# Altium schematic symbol library WR-RAST.SchLib: 73 symbols (part 1 of 2)
Pins are listed as number, name and electrical type; pins without a type are passive.

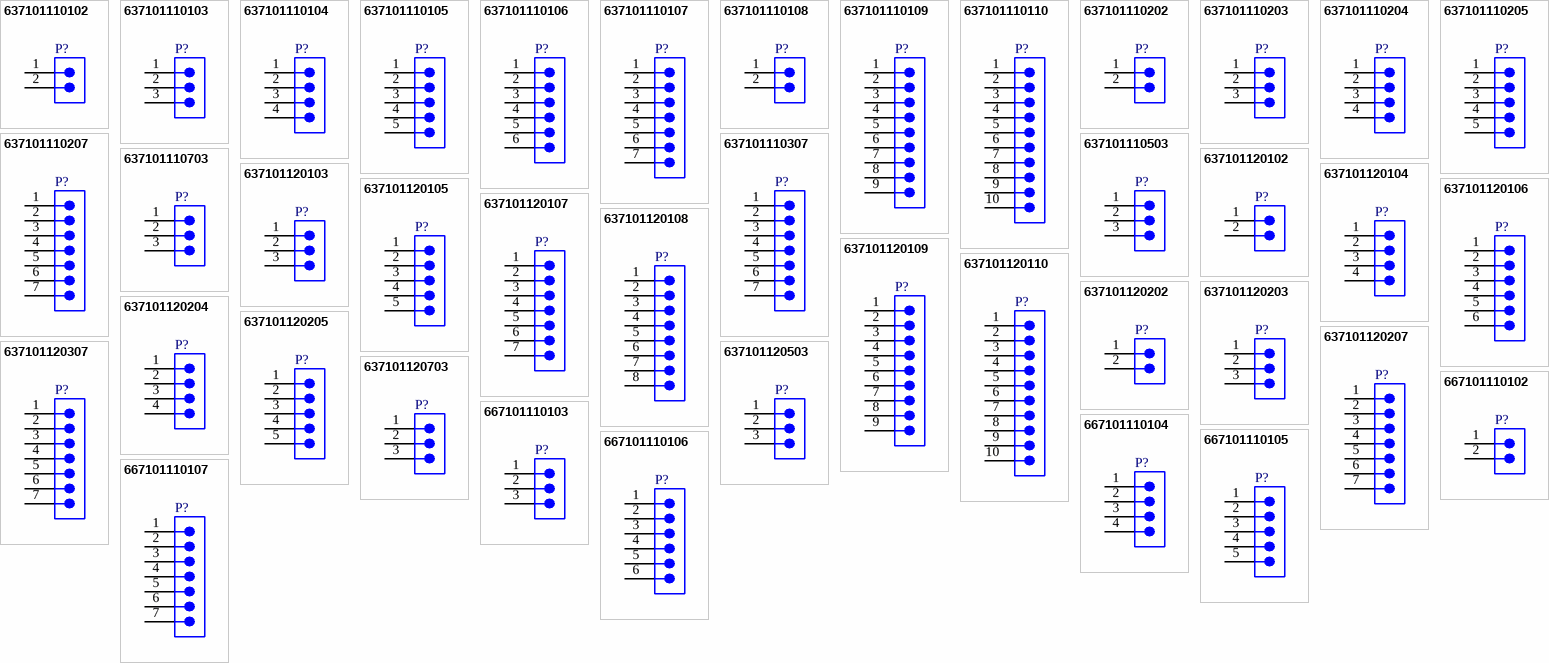
[diagram p0: symbols 637101110102 to 667101110107]

## 637101110102
designator P?  (value not drawn)
WR-RAST Male Header, THT, Vertical, lead pitch 5mm, 02p; Manufacturer: Wurth Elektronik; Rated Current: 16A; Insulator Material: PA66; Polarity: 2; Working Voltage: 380V (AC); Manufacturer Part Number: 637101110102; Category: Wire-to-Board Connector; Match Code: WR-RAST; ComponentLink1Description: Website Link; ComponentLink1URL: https://www.we-online.com; ComponentLink2Description: Datasheet Link; ComponentLink2URL: https://www.we-online.com/components/products/datasheet/637101110102; Mount: Through Hole; Operating Temperature Min: -40degC; Operating Temperature Max: 110degC; Packaging: Tray; Gender: Male; Orientation: Vertical; Lead Pitch: 5mm
footprint 637101110102
pins: 1, 2

## 637101110103
designator P?  (value not drawn)
WR-RAST Male Header, THT, Vertical, lead pitch 5mm, 03p; Manufacturer: Wurth Elektronik; Rated Current: 16A; Insulator Material: PA66; Polarity: 3; Working Voltage: 380V (AC); Manufacturer Part Number: 637101110103; Category: Wire-to-Board Connector; Match Code: WR-RAST; ComponentLink1Description: Website Link; ComponentLink1URL: https://www.we-online.com; ComponentLink2Description: Datasheet Link; ComponentLink2URL: https://www.we-online.com/components/products/datasheet/637101110103; Mount: Through Hole; Operating Temperature Min: -40degC; Operating Temperature Max: 110degC; Packaging: Tray; Gender: Male; Orientation: Vertical; Lead Pitch: 5mm
footprint 637101110103
pins: 1, 2, 3

## 637101110104
designator P?  (value not drawn)
WR-RAST Male Header, THT, Vertical, lead pitch 5mm, 04p; Manufacturer: Wurth Elektronik; Rated Current: 16A; Insulator Material: PA66; Polarity: 4; Working Voltage: 380V (AC); Manufacturer Part Number: 637101110104; Category: Wire-to-Board Connector; Match Code: WR-RAST; ComponentLink1Description: Website Link; ComponentLink1URL: https://www.we-online.com; ComponentLink2Description: Datasheet Link; ComponentLink2URL: https://www.we-online.com/components/products/datasheet/637101110104; Mount: Through Hole; Operating Temperature Min: -40degC; Operating Temperature Max: 110degC; Packaging: Tray; Gender: Male; Orientation: Vertical; Lead Pitch: 5mm
footprint 637101110104
pins: 1, 2, 3, 4

## 637101110105
designator P?  (value not drawn)
WR-RAST Male Header, THT, Vertical, lead pitch 5mm, 05p; Manufacturer: Wurth Elektronik; Rated Current: 16A; Insulator Material: PA66; Polarity: 5; Working Voltage: 380V (AC); Manufacturer Part Number: 637101110105; Category: Wire-to-Board Connector; Match Code: WR-RAST; ComponentLink1Description: Website Link; ComponentLink1URL: https://www.we-online.com; ComponentLink2Description: Datasheet Link; ComponentLink2URL: https://www.we-online.com/components/products/datasheet/637101110105; Mount: Through Hole; Operating Temperature Min: -40degC; Operating Temperature Max: 110degC; Packaging: Tray; Gender: Male; Orientation: Vertical; Lead Pitch: 5mm
footprint 637101110105
pins: 1, 2, 3, 4, 5

## 637101110106
designator P?  (value not drawn)
WR-RAST Male Header, THT, Vertical, lead pitch 5mm, 06p; Manufacturer: Wurth Elektronik; Rated Current: 16A; Insulator Material: PA66; Polarity: 6; Working Voltage: 380V (AC); Manufacturer Part Number: 637101110106; Category: Wire-to-Board Connector; Match Code: WR-RAST; ComponentLink1Description: Website Link; ComponentLink1URL: https://www.we-online.com; ComponentLink2Description: Datasheet Link; ComponentLink2URL: https://www.we-online.com/components/products/datasheet/637101110106; Mount: Through Hole; Operating Temperature Min: -40degC; Operating Temperature Max: 110degC; Packaging: Tray; Gender: Male; Orientation: Vertical; Lead Pitch: 5mm
footprint 637101110106
pins: 1, 2, 3, 4, 5, 6

## 637101110107
designator P?  (value not drawn)
WR-RAST Male Header, THT, Vertical, lead pitch 5mm, 07p; Manufacturer: Wurth Elektronik; Rated Current: 16A; Insulator Material: PA66; Polarity: 7; Working Voltage: 380V (AC); Manufacturer Part Number: 637101110107; Category: Wire-to-Board Connector; Match Code: WR-RAST; ComponentLink1Description: Website Link; ComponentLink1URL: https://www.we-online.com; ComponentLink2Description: Datasheet Link; ComponentLink2URL: https://www.we-online.com/components/products/datasheet/637101110107; Mount: Through Hole; Operating Temperature Min: -40degC; Operating Temperature Max: 110degC; Packaging: Tray; Gender: Male; Orientation: Vertical; Lead Pitch: 5mm
footprint 637101110107
pins: 1, 2, 3, 4, 5, 6, 7

## 637101110108
designator P?  (value not drawn)
WR-RAST Male Header, THT, Vertical, lead pitch 5mm, 02p; Manufacturer: Wurth Elektronik; Rated Current: 16A; Insulator Material: PA66; Polarity: 2; Working Voltage: 380V (AC); Manufacturer Part Number: 637101110108; Category: Wire-to-Board Connector; Match Code: WR-RAST; ComponentLink1Description: Website Link; ComponentLink1URL: https://www.we-online.com; ComponentLink2Description: Datasheet Link; ComponentLink2URL: https://www.we-online.com/components/products/datasheet/637101110108; Mount: Through Hole; Operating Temperature Min: -40degC; Operating Temperature Max: 110degC; Packaging: Tray; Gender: Male; Orientation: Vertical; Lead Pitch: 5mm
footprint 637101110108
pins: 1, 2

## 637101110109
designator P?  (value not drawn)
WR-RAST Male Header, THT, Vertical, lead pitch 5mm, 09p; Manufacturer: Wurth Elektronik; Rated Current: 16A; Insulator Material: PA66; Polarity: 9; Working Voltage: 380V (AC); Manufacturer Part Number: 637101110109; Category: Wire-to-Board Connector; Match Code: WR-RAST; ComponentLink1Description: Website Link; ComponentLink1URL: https://www.we-online.com; ComponentLink2Description: Datasheet Link; ComponentLink2URL: https://www.we-online.com/components/products/datasheet/637101110109; Mount: Through Hole; Operating Temperature Min: -40degC; Operating Temperature Max: 110degC; Packaging: Tray; Gender: Male; Orientation: Vertical; Lead Pitch: 5mm
footprint 637101110109
pins: 1, 2, 3, 4, 5, 6, 7, 8, 9

## 637101110110
designator P?  (value not drawn)
WR-RAST Male Header, THT, Vertical, lead pitch 5mm, 10p; Manufacturer: Wurth Elektronik; Rated Current: 16A; Insulator Material: PA66; Polarity: 10; Working Voltage: 380V (AC); Manufacturer Part Number: 637101110110; Category: Wire-to-Board Connector; Match Code: WR-RAST; ComponentLink1Description: Website Link; ComponentLink1URL: https://www.we-online.com; ComponentLink2Description: Datasheet Link; ComponentLink2URL: https://www.we-online.com/components/products/datasheet/637101110110; Mount: Through Hole; Operating Temperature Min: -40degC; Operating Temperature Max: 110degC; Packaging: Tray; Gender: Male; Orientation: Vertical; Lead Pitch: 5mm
footprint 637101110110
pins: 1, 2, 3, 4, 5, 6, 7, 8, 9, 10

## 637101110202
designator P?  (value not drawn)
WR-RAST Male Header, THT, Vertical, lead pitch 5mm, 02p; Manufacturer: Wurth Elektronik; Rated Current: 16A; Insulator Material: PA66; Polarity: 2; Working Voltage: 380V (AC); Manufacturer Part Number: 637101110202; Category: Wire-to-Board Connector; Match Code: WR-RAST; ComponentLink1Description: Website Link; ComponentLink1URL: https://www.we-online.com; ComponentLink2Description: Datasheet Link; ComponentLink2URL: https://www.we-online.com/components/products/datasheet/637101110202; Mount: Through Hole; Operating Temperature Min: -40degC; Operating Temperature Max: 110degC; Packaging: Tray; Gender: Male; Orientation: Vertical; Lead Pitch: 5mm
footprint 637101110202
pins: 1, 2

## 637101110203
designator P?  (value not drawn)
WR-RAST Male Header, THT, Vertical, lead pitch 5mm, 03p; Manufacturer: Wurth Elektronik; Rated Current: 16A; Insulator Material: PA66; Polarity: 3; Working Voltage: 380V (AC); Manufacturer Part Number: 637101110203; Category: Wire-to-Board Connector; Match Code: WR-RAST; ComponentLink1Description: Website Link; ComponentLink1URL: https://www.we-online.com; ComponentLink2Description: Datasheet Link; ComponentLink2URL: https://www.we-online.com/components/products/datasheet/637101110203; Mount: Through Hole; Operating Temperature Min: -40degC; Operating Temperature Max: 110degC; Packaging: Tray; Gender: Male; Orientation: Vertical; Lead Pitch: 5mm
footprint 637101110203
pins: 1, 2, 3

## 637101110204
designator P?  (value not drawn)
WR-RAST Male Header, THT, Vertical, lead pitch 5mm, 04p; Manufacturer: Wurth Elektronik; Rated Current: 16A; Insulator Material: PA66; Polarity: 4; Working Voltage: 380V (AC); Manufacturer Part Number: 637101110204; Category: Wire-to-Board Connector; Match Code: WR-RAST; ComponentLink1Description: Website Link; ComponentLink1URL: https://www.we-online.com; ComponentLink2Description: Datasheet Link; ComponentLink2URL: https://www.we-online.com/components/products/datasheet/637101110204; Mount: Through Hole; Operating Temperature Min: -40degC; Operating Temperature Max: 110degC; Packaging: Tray; Gender: Male; Orientation: Vertical; Lead Pitch: 5mm
footprint 637101110204
pins: 1, 2, 3, 4

## 637101110205
designator P?  (value not drawn)
WR-RAST Male Header, THT, Vertical, lead pitch 5mm, 05p; Manufacturer: Wurth Elektronik; Rated Current: 16A; Insulator Material: PA66; Polarity: 5; Working Voltage: 380V (AC); Manufacturer Part Number: 637101110205; Category: Wire-to-Board Connector; Match Code: WR-RAST; ComponentLink1Description: Website Link; ComponentLink1URL: https://www.we-online.com; ComponentLink2Description: Datasheet Link; ComponentLink2URL: https://www.we-online.com/components/products/datasheet/637101110205; Mount: Through Hole; Operating Temperature Min: -40degC; Operating Temperature Max: 110degC; Packaging: Tray; Gender: Male; Orientation: Vertical; Lead Pitch: 5mm
footprint 637101110205
pins: 1, 2, 3, 4, 5

## 637101110207
designator P?  (value not drawn)
WR-RAST Male Header, THT, Vertical, lead pitch 5mm, 07p; Manufacturer: Wurth Elektronik; Rated Current: 16A; Insulator Material: PA66; Polarity: 7; Working Voltage: 380V (AC); Manufacturer Part Number: 637101110207; Category: Wire-to-Board Connector; Match Code: WR-RAST; ComponentLink1Description: Website Link; ComponentLink1URL: https://www.we-online.com; ComponentLink2Description: Datasheet Link; ComponentLink2URL: https://www.we-online.com/components/products/datasheet/637101110207; Mount: Through Hole; Operating Temperature Min: -40degC; Operating Temperature Max: 110degC; Packaging: Tray; Gender: Male; Orientation: Vertical; Lead Pitch: 5mm
footprint 637101110207
pins: 1, 2, 3, 4, 5, 6, 7

## 637101110307
designator P?  (value not drawn)
WR-RAST Male Header, THT, Vertical, lead pitch 5mm, 07p; Manufacturer: Wurth Elektronik; Rated Current: 16A; Insulator Material: PA66; Polarity: 7; Working Voltage: 380V (AC); Manufacturer Part Number: 637101110307; Category: Wire-to-Board Connector; Match Code: WR-RAST; ComponentLink1Description: Website Link; ComponentLink1URL: https://www.we-online.com; ComponentLink2Description: Datasheet Link; ComponentLink2URL: https://www.we-online.com/components/products/datasheet/637101110307; Mount: Through Hole; Operating Temperature Min: -40degC; Operating Temperature Max: 110degC; Packaging: Tray; Gender: Male; Orientation: Vertical; Lead Pitch: 5mm
footprint 637101110307
pins: 1, 2, 3, 4, 5, 6, 7

## 637101110503
designator P?  (value not drawn)
WR-RAST Male Header, THT, Vertical, lead pitch 5mm, 03p; Manufacturer: Wurth Elektronik; Rated Current: 16A; Insulator Material: PA66; Polarity: 3; Working Voltage: 380V (AC); Manufacturer Part Number: 637101110503; Category: Wire-to-Board Connector; Match Code: WR-RAST; ComponentLink1Description: Website Link; ComponentLink1URL: https://www.we-online.com; ComponentLink2Description: Datasheet Link; ComponentLink2URL: https://www.we-online.com/components/products/datasheet/637101110503; Mount: Through Hole; Operating Temperature Min: -40degC; Operating Temperature Max: 110degC; Packaging: Tray; Gender: Male; Orientation: Vertical; Lead Pitch: 5mm
footprint 637101110503
pins: 1, 2, 3

## 637101110703
designator P?  (value not drawn)
WR-RAST Male Header, THT, Vertical, lead pitch 5mm, 03p; Manufacturer: Wurth Elektronik; Rated Current: 16A; Insulator Material: PA66; Polarity: 3; Working Voltage: 380V (AC); Manufacturer Part Number: 637101110703; Category: Wire-to-Board Connector; Match Code: WR-RAST; ComponentLink1Description: Website Link; ComponentLink1URL: https://www.we-online.com; ComponentLink2Description: Datasheet Link; ComponentLink2URL: https://www.we-online.com/components/products/datasheet/637101110703; Mount: Through Hole; Operating Temperature Min: -40degC; Operating Temperature Max: 110degC; Packaging: Tray; Gender: Male; Orientation: Vertical; Lead Pitch: 5mm
footprint 637101110703
pins: 1, 2, 3

## 637101120102
designator P?  (value not drawn)
WR-RAST Male Header, THT, Horizontal, lead pitch 5mm, 02p; Manufacturer: Wurth Elektronik; Rated Current: 16A; Insulator Material: PA66; Polarity: 2; Working Voltage: 380V (AC); Manufacturer Part Number: 637101120102; Category: Wire-to-Board Connector; Match Code: WR-RAST; ComponentLink1Description: Website Link; ComponentLink1URL: https://www.we-online.com; ComponentLink2Description: Datasheet Link; ComponentLink2URL: https://www.we-online.com/components/products/datasheet/637101120102; Mount: Through Hole; Operating Temperature Min: -40degC; Operating Temperature Max: 110degC; Packaging: Tray; Gender: Male; Orientation: Horizontal; Lead Pitch: 5mm
footprint 637101120102
pins: 1, 2

## 637101120103
designator P?  (value not drawn)
WR-RAST Male Header, THT, Horizontal, lead pitch 5mm, 03p; Manufacturer: Wurth Elektronik; Rated Current: 16A; Insulator Material: PA66; Polarity: 3; Working Voltage: 380V (AC); Manufacturer Part Number: 637101120103; Category: Wire-to-Board Connector; Match Code: WR-RAST; ComponentLink1Description: Website Link; ComponentLink1URL: https://www.we-online.com; ComponentLink2Description: Datasheet Link; ComponentLink2URL: https://www.we-online.com/components/products/datasheet/637101120103; Mount: Through Hole; Operating Temperature Min: -40degC; Operating Temperature Max: 110degC; Packaging: Tray; Gender: Male; Orientation: Horizontal; Lead Pitch: 5mm
footprint 637101120103
pins: 1, 2, 3

## 637101120104
designator P?  (value not drawn)
WR-RAST Male Header, THT, Horizontal, lead pitch 5mm, 04p; Manufacturer: Wurth Elektronik; Rated Current: 16A; Insulator Material: PA66; Polarity: 4; Working Voltage: 380V (AC); Manufacturer Part Number: 637101120104; Category: Wire-to-Board Connector; Match Code: WR-RAST; ComponentLink1Description: Website Link; ComponentLink1URL: https://www.we-online.com; ComponentLink2Description: Datasheet Link; ComponentLink2URL: https://www.we-online.com/components/products/datasheet/637101120104; Mount: Through Hole; Operating Temperature Min: -40degC; Operating Temperature Max: 110degC; Packaging: Tray; Gender: Male; Orientation: Horizontal; Lead Pitch: 5mm
footprint 637101120104
pins: 1, 2, 3, 4

## 637101120105
designator P?  (value not drawn)
WR-RAST Male Header, THT, Horizontal, lead pitch 5mm, 05p; Manufacturer: Wurth Elektronik; Rated Current: 16A; Insulator Material: PA66; Polarity: 5; Working Voltage: 380V (AC); Manufacturer Part Number: 637101120105; Category: Wire-to-Board Connector; Match Code: WR-RAST; ComponentLink1Description: Website Link; ComponentLink1URL: https://www.we-online.com; ComponentLink2Description: Datasheet Link; ComponentLink2URL: https://www.we-online.com/components/products/datasheet/637101120105; Mount: Through Hole; Operating Temperature Min: -40degC; Operating Temperature Max: 110degC; Packaging: Tray; Gender: Male; Orientation: Horizontal; Lead Pitch: 5mm
footprint 637101120105
pins: 1, 2, 3, 4, 5

## 637101120106
designator P?  (value not drawn)
WR-RAST Male Header, THT, Horizontal, lead pitch 5mm, 06p; Manufacturer: Wurth Elektronik; Rated Current: 16A; Insulator Material: PA66; Polarity: 6; Working Voltage: 380V (AC); Manufacturer Part Number: 637101120106; Category: Wire-to-Board Connector; Match Code: WR-RAST; ComponentLink1Description: Website Link; ComponentLink1URL: https://www.we-online.com; ComponentLink2Description: Datasheet Link; ComponentLink2URL: https://www.we-online.com/components/products/datasheet/637101120106; Mount: Through Hole; Operating Temperature Min: -40degC; Operating Temperature Max: 110degC; Packaging: Tray; Gender: Male; Orientation: Horizontal; Lead Pitch: 5mm
footprint 637101120106
pins: 1, 2, 3, 4, 5, 6

## 637101120107
designator P?  (value not drawn)
WR-RAST Male Header, THT, Horizontal, lead pitch 5mm, 07p; Manufacturer: Wurth Elektronik; Rated Current: 16A; Insulator Material: PA66; Polarity: 7; Working Voltage: 380V (AC); Manufacturer Part Number: 637101120107; Category: Wire-to-Board Connector; Match Code: WR-RAST; ComponentLink1Description: Website Link; ComponentLink1URL: https://www.we-online.com; ComponentLink2Description: Datasheet Link; ComponentLink2URL: https://www.we-online.com/components/products/datasheet/637101120107; Mount: Through Hole; Operating Temperature Min: -40degC; Operating Temperature Max: 110degC; Packaging: Tray; Gender: Male; Orientation: Horizontal; Lead Pitch: 5mm
footprint 637101120107
pins: 1, 2, 3, 4, 5, 6, 7

## 637101120108
designator P?  (value not drawn)
WR-RAST Male Header, THT, Horizontal, lead pitch 5mm, 08p; Manufacturer: Wurth Elektronik; Rated Current: 16A; Insulator Material: PA66; Polarity: 8; Working Voltage: 380V (AC); Manufacturer Part Number: 637101120108; Category: Wire-to-Board Connector; Match Code: WR-RAST; ComponentLink1Description: Website Link; ComponentLink1URL: https://www.we-online.com; ComponentLink2Description: Datasheet Link; ComponentLink2URL: https://www.we-online.com/components/products/datasheet/637101120108; Mount: Through Hole; Operating Temperature Min: -40degC; Operating Temperature Max: 110degC; Packaging: Tray; Gender: Male; Orientation: Horizontal; Lead Pitch: 5mm
footprint 637101120108
pins: 1, 2, 3, 4, 5, 6, 7, 8

## 637101120109
designator P?  (value not drawn)
WR-RAST Male Header, THT, Horizontal, lead pitch 5mm, 09p; Manufacturer: Wurth Elektronik; Rated Current: 16A; Insulator Material: PA66; Polarity: 9; Working Voltage: 380V (AC); Manufacturer Part Number: 637101120109; Category: Wire-to-Board Connector; Match Code: WR-RAST; ComponentLink1Description: Website Link; ComponentLink1URL: https://www.we-online.com; ComponentLink2Description: Datasheet Link; ComponentLink2URL: https://www.we-online.com/components/products/datasheet/637101120109; Mount: Through Hole; Operating Temperature Min: -40degC; Operating Temperature Max: 110degC; Packaging: Tray; Gender: Male; Orientation: Horizontal; Lead Pitch: 5mm
footprint 637101120109
pins: 1, 2, 3, 4, 5, 6, 7, 8, 9

## 637101120110
designator P?  (value not drawn)
WR-RAST Male Header, THT, Horizontal, lead pitch 5mm, 10p; Manufacturer: Wurth Elektronik; Rated Current: 16A; Insulator Material: PA66; Polarity: 10; Working Voltage: 380V (AC); Manufacturer Part Number: 637101120110; Category: Wire-to-Board Connector; Match Code: WR-RAST; ComponentLink1Description: Website Link; ComponentLink1URL: https://www.we-online.com; ComponentLink2Description: Datasheet Link; ComponentLink2URL: https://www.we-online.com/components/products/datasheet/637101120110; Mount: Through Hole; Operating Temperature Min: -40degC; Operating Temperature Max: 110degC; Packaging: Tray; Gender: Male; Orientation: Horizontal; Lead Pitch: 5mm
footprint 637101120110
pins: 1, 2, 3, 4, 5, 6, 7, 8, 9, 10

## 637101120202
designator P?  (value not drawn)
WR-RAST Male Header, THT, Horizontal, lead pitch 5mm, 02p; Manufacturer: Wurth Elektronik; Rated Current: 16A; Insulator Material: PA66; Polarity: 2; Working Voltage: 380V (AC); Manufacturer Part Number: 637101120202; Category: Wire-to-Board Connector; Match Code: WR-RAST; ComponentLink1Description: Website Link; ComponentLink1URL: https://www.we-online.com; ComponentLink2Description: Datasheet Link; ComponentLink2URL: https://www.we-online.com/components/products/datasheet/637101120202; Mount: Through Hole; Operating Temperature Min: -40degC; Operating Temperature Max: 110degC; Packaging: Tray; Gender: Male; Orientation: Horizontal; Lead Pitch: 5mm
footprint 637101120202
pins: 1, 2

## 637101120203
designator P?  (value not drawn)
WR-RAST Male Header, THT, Horizontal, lead pitch 5mm, 03p; Manufacturer: Wurth Elektronik; Rated Current: 16A; Insulator Material: PA66; Polarity: 3; Working Voltage: 380V (AC); Manufacturer Part Number: 637101120203; Category: Wire-to-Board Connector; Match Code: WR-RAST; ComponentLink1Description: Website Link; ComponentLink1URL: https://www.we-online.com; ComponentLink2Description: Datasheet Link; ComponentLink2URL: https://www.we-online.com/components/products/datasheet/637101120203; Mount: Through Hole; Operating Temperature Min: -40degC; Operating Temperature Max: 110degC; Packaging: Tray; Gender: Male; Orientation: Horizontal; Lead Pitch: 5mm
footprint 637101120203
pins: 1, 2, 3

## 637101120204
designator P?  (value not drawn)
WR-RAST Male Header, THT, Horizontal, lead pitch 5mm, 04p; Manufacturer: Wurth Elektronik; Rated Current: 16A; Insulator Material: PA66; Polarity: 4; Working Voltage: 380V (AC); Manufacturer Part Number: 637101120204; Category: Wire-to-Board Connector; Match Code: WR-RAST; ComponentLink1Description: Website Link; ComponentLink1URL: https://www.we-online.com; ComponentLink2Description: Datasheet Link; ComponentLink2URL: https://www.we-online.com/components/products/datasheet/637101120204; Mount: Through Hole; Operating Temperature Min: -40degC; Operating Temperature Max: 110degC; Packaging: Tray; Gender: Male; Orientation: Horizontal; Lead Pitch: 5mm
footprint 637101120204
pins: 1, 2, 3, 4

## 637101120205
designator P?  (value not drawn)
WR-RAST Male Header, THT, Horizontal, lead pitch 5mm, 05p; Manufacturer: Wurth Elektronik; Rated Current: 16A; Insulator Material: PA66; Polarity: 5; Working Voltage: 380V (AC); Manufacturer Part Number: 637101120205; Category: Wire-to-Board Connector; Match Code: WR-RAST; ComponentLink1Description: Website Link; ComponentLink1URL: https://www.we-online.com; ComponentLink2Description: Datasheet Link; ComponentLink2URL: https://www.we-online.com/components/products/datasheet/637101120205; Mount: Through Hole; Operating Temperature Min: -40degC; Operating Temperature Max: 110degC; Packaging: Tray; Gender: Male; Orientation: Horizontal; Lead Pitch: 5mm
footprint 637101120205
pins: 1, 2, 3, 4, 5

## 637101120207
designator P?  (value not drawn)
WR-RAST Male Header, THT, Horizontal, lead pitch 5mm, 07p; Manufacturer: Wurth Elektronik; Rated Current: 16A; Insulator Material: PA66; Polarity: 7; Working Voltage: 380V (AC); Manufacturer Part Number: 637101120207; Category: Wire-to-Board Connector; Match Code: WR-RAST; ComponentLink1Description: Website Link; ComponentLink1URL: https://www.we-online.com; ComponentLink2Description: Datasheet Link; ComponentLink2URL: https://www.we-online.com/components/products/datasheet/637101120207; Mount: Through Hole; Operating Temperature Min: -40degC; Operating Temperature Max: 110degC; Packaging: Tray; Gender: Male; Orientation: Horizontal; Lead Pitch: 5mm
footprint 637101120207
pins: 1, 2, 3, 4, 5, 6, 7

## 637101120307
designator P?  (value not drawn)
WR-RAST Male Header, THT, Horizontal, lead pitch 5mm, 07p; Manufacturer: Wurth Elektronik; Rated Current: 16A; Insulator Material: PA66; Polarity: 7; Working Voltage: 380V (AC); Manufacturer Part Number: 637101120307; Category: Wire-to-Board Connector; Match Code: WR-RAST; ComponentLink1Description: Website Link; ComponentLink1URL: https://www.we-online.com; ComponentLink2Description: Datasheet Link; ComponentLink2URL: https://www.we-online.com/components/products/datasheet/637101120307; Mount: Through Hole; Operating Temperature Min: -40degC; Operating Temperature Max: 110degC; Packaging: Tray; Gender: Male; Orientation: Horizontal; Lead Pitch: 5mm
footprint 637101120307
pins: 1, 2, 3, 4, 5, 6, 7

## 637101120503
designator P?  (value not drawn)
WR-RAST Male Header, THT, Horizontal, lead pitch 5mm, 03p; Manufacturer: Wurth Elektronik; Rated Current: 16A; Insulator Material: PA66; Polarity: 3; Working Voltage: 380V (AC); Manufacturer Part Number: 637101120503; Category: Wire-to-Board Connector; Match Code: WR-RAST; ComponentLink1Description: Website Link; ComponentLink1URL: https://www.we-online.com; ComponentLink2Description: Datasheet Link; ComponentLink2URL: https://www.we-online.com/components/products/datasheet/637101120503; Mount: Through Hole; Operating Temperature Min: -40degC; Operating Temperature Max: 110degC; Packaging: Tray; Gender: Male; Orientation: Horizontal; Lead Pitch: 5mm
footprint 637101120503
pins: 1, 2, 3

## 637101120703
designator P?  (value not drawn)
WR-RAST Male Header, THT, Horizontal, lead pitch 5mm, 03p; Manufacturer: Wurth Elektronik; Rated Current: 16A; Insulator Material: PA66; Polarity: 3; Working Voltage: 380V (AC); Manufacturer Part Number: 637101120703; Category: Wire-to-Board Connector; Match Code: WR-RAST; ComponentLink1Description: Website Link; ComponentLink1URL: https://www.we-online.com; ComponentLink2Description: Datasheet Link; ComponentLink2URL: https://www.we-online.com/components/products/datasheet/637101120703; Mount: Through Hole; Operating Temperature Min: -40degC; Operating Temperature Max: 110degC; Packaging: Tray; Gender: Male; Orientation: Horizontal; Lead Pitch: 5mm
footprint 637101120703
pins: 1, 2, 3

## 667101110102
designator P?  (value not drawn)
WR-RAST Male Header IDC, THT, Vertical, lead pitch 2.5mm, 02p; Manufacturer: Wurth Elektronik; Rated Current: 4A; Insulator Material: PA66; Polarity: 2; Working Voltage: 32V (AC); Manufacturer Part Number: 667101110102; Category: Wire-to-Board Connector; Match Code: WR-RAST; ComponentLink1Description: Website Link; ComponentLink1URL: https://www.we-online.com; ComponentLink2Description: Datasheet Link; ComponentLink2URL: https://www.we-online.com/components/products/datasheet/667101110102; Mount: Through Hole; Operating Temperature Min: -40degC; Operating Temperature Max: 110degC; Packaging: Tray; Gender: Male; Orientation: Vertical; Lead Pitch: 2.5mm
footprint 667101110102
pins: 1, 2

## 667101110103
designator P?  (value not drawn)
WR-RAST Male Header IDC, THT, Vertical, lead pitch 2.5mm, 03p; Manufacturer: Wurth Elektronik; Rated Current: 4A; Insulator Material: PA66; Polarity: 3; Working Voltage: 32V (AC); Manufacturer Part Number: 667101110103; Category: Wire-to-Board Connector; Match Code: WR-RAST; ComponentLink1Description: Website Link; ComponentLink1URL: https://www.we-online.com; ComponentLink2Description: Datasheet Link; ComponentLink2URL: https://www.we-online.com/components/products/datasheet/667101110103; Mount: Through Hole; Operating Temperature Min: -40degC; Operating Temperature Max: 110degC; Packaging: Tray; Gender: Male; Orientation: Vertical; Lead Pitch: 2.5mm
footprint 667101110103
pins: 1, 2, 3

## 667101110104
designator P?  (value not drawn)
WR-RAST Male Header IDC, THT, Vertical, lead pitch 2.5mm, 04p; Manufacturer: Wurth Elektronik; Rated Current: 4A; Insulator Material: PA66; Polarity: 4; Working Voltage: 32V (AC); Manufacturer Part Number: 667101110104; Category: Wire-to-Board Connector; Match Code: WR-RAST; ComponentLink1Description: Website Link; ComponentLink1URL: https://www.we-online.com; ComponentLink2Description: Datasheet Link; ComponentLink2URL: https://www.we-online.com/components/products/datasheet/667101110104; Mount: Through Hole; Operating Temperature Min: -40degC; Operating Temperature Max: 110degC; Packaging: Tray; Gender: Male; Orientation: Vertical; Lead Pitch: 2.5mm
footprint 667101110104
pins: 1, 2, 3, 4

## 667101110105
designator P?  (value not drawn)
WR-RAST Male Header IDC, THT, Vertical, lead pitch 2.5mm, 05p; Manufacturer: Wurth Elektronik; Rated Current: 4A; Insulator Material: PA66; Polarity: 5; Working Voltage: 32V (AC); Manufacturer Part Number: 667101110105; Category: Wire-to-Board Connector; Match Code: WR-RAST; ComponentLink1Description: Website Link; ComponentLink1URL: https://www.we-online.com; ComponentLink2Description: Datasheet Link; ComponentLink2URL: https://www.we-online.com/components/products/datasheet/667101110105; Mount: Through Hole; Operating Temperature Min: -40degC; Operating Temperature Max: 110degC; Packaging: Tray; Gender: Male; Orientation: Vertical; Lead Pitch: 2.5mm
footprint 667101110105
pins: 1, 2, 3, 4, 5

## 667101110106
designator P?  (value not drawn)
WR-RAST Male Header IDC, THT, Vertical, lead pitch 2.5mm, 06p; Manufacturer: Wurth Elektronik; Rated Current: 4A; Insulator Material: PA66; Polarity: 6; Working Voltage: 32V (AC); Manufacturer Part Number: 667101110106; Category: Wire-to-Board Connector; Match Code: WR-RAST; ComponentLink1Description: Website Link; ComponentLink1URL: https://www.we-online.com; ComponentLink2Description: Datasheet Link; ComponentLink2URL: https://www.we-online.com/components/products/datasheet/667101110106; Mount: Through Hole; Operating Temperature Min: -40degC; Operating Temperature Max: 110degC; Packaging: Tray; Gender: Male; Orientation: Vertical; Lead Pitch: 2.5mm
footprint 667101110106
pins: 1, 2, 3, 4, 5, 6

## 667101110107
designator P?  (value not drawn)
WR-RAST Male Header IDC, THT, Vertical, lead pitch 2.5mm, 07p; Manufacturer: Wurth Elektronik; Rated Current: 4A; Insulator Material: PA66; Polarity: 7; Working Voltage: 32V (AC); Manufacturer Part Number: 667101110107; Category: Wire-to-Board Connector; Match Code: WR-RAST; ComponentLink1Description: Website Link; ComponentLink1URL: https://www.we-online.com; ComponentLink2Description: Datasheet Link; ComponentLink2URL: https://www.we-online.com/components/products/datasheet/667101110107; Mount: Through Hole; Operating Temperature Min: -40degC; Operating Temperature Max: 110degC; Packaging: Tray; Gender: Male; Orientation: Vertical; Lead Pitch: 2.5mm
footprint 667101110107
pins: 1, 2, 3, 4, 5, 6, 7

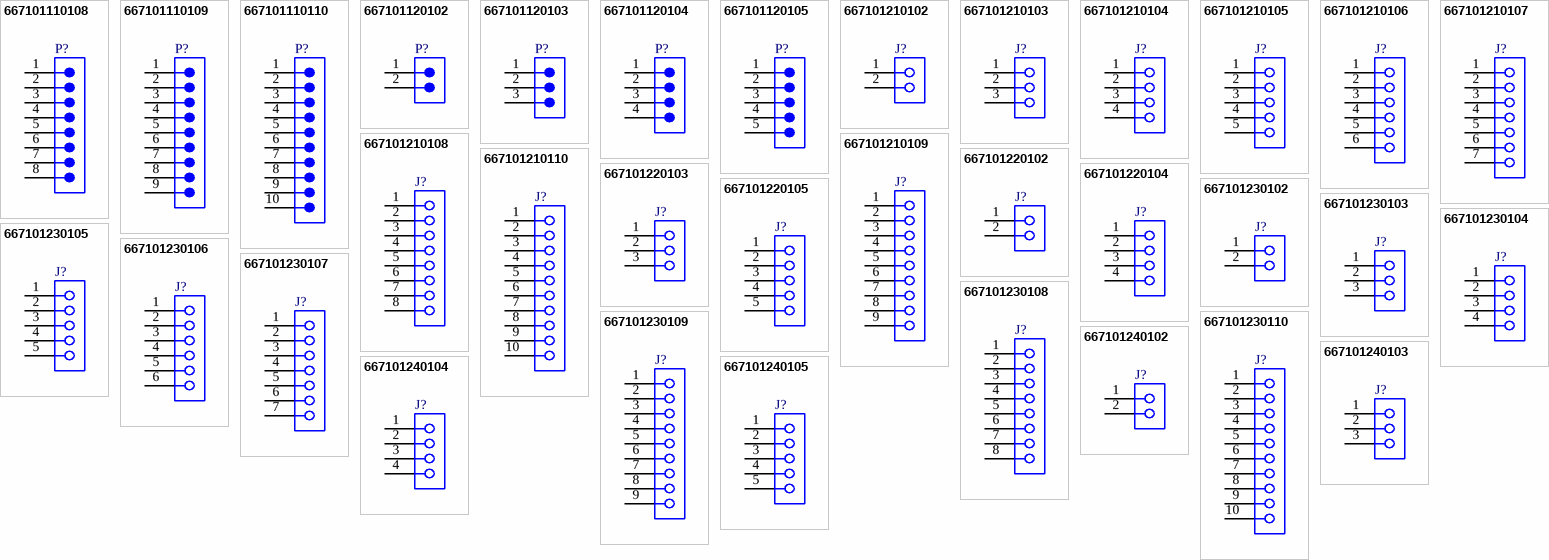
[diagram p1: symbols 667101110108 to 667101240105]

## 667101110108
designator P?  (value not drawn)
WR-RAST Male Header IDC, THT, Vertical, lead pitch 2.5mm, 08p; Manufacturer: Wurth Elektronik; Rated Current: 4A; Insulator Material: PA66; Polarity: 8; Working Voltage: 32V (AC); Manufacturer Part Number: 667101110108; Category: Wire-to-Board Connector; Match Code: WR-RAST; ComponentLink1Description: Website Link; ComponentLink1URL: https://www.we-online.com; ComponentLink2Description: Datasheet Link; ComponentLink2URL: https://www.we-online.com/components/products/datasheet/667101110108; Mount: Through Hole; Operating Temperature Min: -40degC; Operating Temperature Max: 110degC; Packaging: Tray; Gender: Male; Orientation: Vertical; Lead Pitch: 2.5mm
footprint 667101110108
pins: 1, 2, 3, 4, 5, 6, 7, 8

## 667101110109
designator P?  (value not drawn)
WR-RAST Male Header IDC, THT, Vertical, lead pitch 2.5mm, 09p; Manufacturer: Wurth Elektronik; Rated Current: 4A; Insulator Material: PA66; Polarity: 9; Working Voltage: 32V (AC); Manufacturer Part Number: 667101110109; Category: Wire-to-Board Connector; Match Code: WR-RAST; ComponentLink1Description: Website Link; ComponentLink1URL: https://www.we-online.com; ComponentLink2Description: Datasheet Link; ComponentLink2URL: https://www.we-online.com/components/products/datasheet/667101110109; Mount: Through Hole; Operating Temperature Min: -40degC; Operating Temperature Max: 110degC; Packaging: Tray; Gender: Male; Orientation: Vertical; Lead Pitch: 2.5mm
footprint 667101110109
pins: 1, 2, 3, 4, 5, 6, 7, 8, 9

## 667101110110
designator P?  (value not drawn)
WR-RAST Male Header IDC, THT, Vertical, lead pitch 2.5mm, 10p; Manufacturer: Wurth Elektronik; Rated Current: 4A; Insulator Material: PA66; Polarity: 10; Working Voltage: 32V (AC); Manufacturer Part Number: 667101110110; Category: Wire-to-Board Connector; Match Code: WR-RAST; ComponentLink1Description: Website Link; ComponentLink1URL: https://www.we-online.com; ComponentLink2Description: Datasheet Link; ComponentLink2URL: https://www.we-online.com/components/products/datasheet/667101110110; Mount: Through Hole; Operating Temperature Min: -40degC; Operating Temperature Max: 110degC; Packaging: Tray; Gender: Male; Orientation: Vertical; Lead Pitch: 2.5mm
footprint 667101110110
pins: 1, 2, 3, 4, 5, 6, 7, 8, 9, 10

## 667101120102
designator P?  (value not drawn)
WR-RAST Male Header IDC, THT, Vertical, lead pitch 5mm, 02p; Manufacturer: Wurth Elektronik; Rated Current: 4A; Insulator Material: PA66; Polarity: 2; Working Voltage: 250V (AC); Manufacturer Part Number: 667101120102; Category: Wire-to-Board Connector; Match Code: WR-RAST; ComponentLink1Description: Website Link; ComponentLink1URL: https://www.we-online.com; ComponentLink2Description: Datasheet Link; ComponentLink2URL: https://www.we-online.com/components/products/datasheet/667101120102; Mount: Through Hole; Operating Temperature Min: -40degC; Operating Temperature Max: 110degC; Packaging: Tray; Gender: Male; Orientation: Vertical; Lead Pitch: 5mm
footprint 667101120102
pins: 1, 2

## 667101120103
designator P?  (value not drawn)
WR-RAST Male Header IDC, THT, Vertical, lead pitch 5mm, 03p; Manufacturer: Wurth Elektronik; Rated Current: 4A; Insulator Material: PA66; Polarity: 3; Working Voltage: 250V (AC); Manufacturer Part Number: 667101120103; Category: Wire-to-Board Connector; Match Code: WR-RAST; ComponentLink1Description: Website Link; ComponentLink1URL: https://www.we-online.com; ComponentLink2Description: Datasheet Link; ComponentLink2URL: https://www.we-online.com/components/products/datasheet/667101120103; Mount: Through Hole; Operating Temperature Min: -40degC; Operating Temperature Max: 110degC; Packaging: Tray; Gender: Male; Orientation: Vertical; Lead Pitch: 5mm
footprint 667101120103
pins: 1, 2, 3

## 667101120104
designator P?  (value not drawn)
WR-RAST Male Header IDC, THT, Vertical, lead pitch 5mm, 04p; Manufacturer: Wurth Elektronik; Rated Current: 4A; Insulator Material: PA66; Polarity: 4; Working Voltage: 250V (AC); Manufacturer Part Number: 667101120104; Category: Wire-to-Board Connector; Match Code: WR-RAST; ComponentLink1Description: Website Link; ComponentLink1URL: https://www.we-online.com; ComponentLink2Description: Datasheet Link; ComponentLink2URL: https://www.we-online.com/components/products/datasheet/667101120104; Mount: Through Hole; Operating Temperature Min: -40degC; Operating Temperature Max: 110degC; Packaging: Tray; Gender: Male; Orientation: Vertical; Lead Pitch: 5mm
footprint 667101120104
pins: 1, 2, 3, 4

## 667101120105
designator P?  (value not drawn)
WR-RAST Male Header IDC, THT, Vertical, lead pitch 5mm, 05p; Manufacturer: Wurth Elektronik; Rated Current: 4A; Insulator Material: PA66; Polarity: 5; Working Voltage: 250V (AC); Manufacturer Part Number: 667101120105; Category: Wire-to-Board Connector; Match Code: WR-RAST; ComponentLink1Description: Website Link; ComponentLink1URL: https://www.we-online.com; ComponentLink2Description: Datasheet Link; ComponentLink2URL: https://www.we-online.com/components/products/datasheet/667101120105; Mount: Through Hole; Operating Temperature Min: -40degC; Operating Temperature Max: 110degC; Packaging: Tray; Gender: Male; Orientation: Vertical; Lead Pitch: 5mm
footprint 667101120105
pins: 1, 2, 3, 4, 5

## 667101210102
designator J?  (value not drawn)
WR-RAST Female Housing IDC, SMT, Horizontal, lead pitch 2.5mm, 02p; Manufacturer: Wurth Elektronik; Rated Current: 4A; Insulator Material: PA66; Polarity: 2; Working Voltage: 32V (AC); Manufacturer Part Number: 667101210102; Category: Wire-to-Board Connector; Match Code: WR-RAST; ComponentLink1Description: Website Link; ComponentLink1URL: https://www.we-online.com; ComponentLink2Description: Datasheet Link; ComponentLink2URL: https://www.we-online.com/components/products/datasheet/667101210102; Mount: Surface Mount; Operating Temperature Min: -40degC; Operating Temperature Max: 110degC; Packaging: Tray; Gender: Female; Orientation: Horizontal; Lead Pitch: 2.5mm
footprint 667101210102
pins: 1, 2

## 667101210103
designator J?  (value not drawn)
WR-RAST Female Housing IDC, SMT, Horizontal, lead pitch 2.5mm, 03p; Manufacturer: Wurth Elektronik; Rated Current: 4A; Insulator Material: PA66; Polarity: 3; Working Voltage: 32V (AC); Manufacturer Part Number: 667101210103; Category: Wire-to-Board Connector; Match Code: WR-RAST; ComponentLink1Description: Website Link; ComponentLink1URL: https://www.we-online.com; ComponentLink2Description: Datasheet Link; ComponentLink2URL: https://www.we-online.com/components/products/datasheet/667101210103; Mount: Surface Mount; Operating Temperature Min: -40degC; Operating Temperature Max: 110degC; Packaging: Tray; Gender: Female; Orientation: Horizontal; Lead Pitch: 2.5mm
footprint 667101210103
pins: 1, 2, 3

## 667101210104
designator J?  (value not drawn)
WR-RAST Female Housing IDC, SMT, Horizontal, lead pitch 2.5mm, 04p; Manufacturer: Wurth Elektronik; Rated Current: 4A; Insulator Material: PA66; Polarity: 4; Working Voltage: 32V (AC); Manufacturer Part Number: 667101210104; Category: Wire-to-Board Connector; Match Code: WR-RAST; ComponentLink1Description: Website Link; ComponentLink1URL: https://www.we-online.com; ComponentLink2Description: Datasheet Link; ComponentLink2URL: https://www.we-online.com/components/products/datasheet/667101210104; Mount: Surface Mount; Operating Temperature Min: -40degC; Operating Temperature Max: 110degC; Packaging: Tray; Gender: Female; Orientation: Horizontal; Lead Pitch: 2.5mm
footprint 667101210104
pins: 1, 2, 3, 4

## 667101210105
designator J?  (value not drawn)
WR-RAST Female Housing IDC, SMT, Horizontal, lead pitch 2.5mm, 05p; Manufacturer: Wurth Elektronik; Rated Current: 4A; Insulator Material: PA66; Polarity: 5; Working Voltage: 32V (AC); Manufacturer Part Number: 667101210105; Category: Wire-to-Board Connector; Match Code: WR-RAST; ComponentLink1Description: Website Link; ComponentLink1URL: https://www.we-online.com; ComponentLink2Description: Datasheet Link; ComponentLink2URL: https://www.we-online.com/components/products/datasheet/667101210105; Mount: Surface Mount; Operating Temperature Min: -40degC; Operating Temperature Max: 110degC; Packaging: Tray; Gender: Female; Orientation: Horizontal; Lead Pitch: 2.5mm
footprint 667101210105
pins: 1, 2, 3, 4, 5

## 667101210106
designator J?  (value not drawn)
WR-RAST Female Housing IDC, SMT, Horizontal, lead pitch 2.5mm, 06p; Manufacturer: Wurth Elektronik; Rated Current: 4A; Insulator Material: PA66; Polarity: 6; Working Voltage: 32V (AC); Manufacturer Part Number: 667101210106; Category: Wire-to-Board Connector; Match Code: WR-RAST; ComponentLink1Description: Website Link; ComponentLink1URL: https://www.we-online.com; ComponentLink2Description: Datasheet Link; ComponentLink2URL: https://www.we-online.com/components/products/datasheet/667101210106; Mount: Surface Mount; Operating Temperature Min: -40degC; Operating Temperature Max: 110degC; Packaging: Tray; Gender: Female; Orientation: Horizontal; Lead Pitch: 2.5mm
footprint 667101210106
pins: 1, 2, 3, 4, 5, 6

## 667101210107
designator J?  (value not drawn)
WR-RAST Female Housing IDC, SMT, Horizontal, lead pitch 2.5mm, 07p; Manufacturer: Wurth Elektronik; Rated Current: 4A; Insulator Material: PA66; Polarity: 7; Working Voltage: 32V (AC); Manufacturer Part Number: 667101210107; Category: Wire-to-Board Connector; Match Code: WR-RAST; ComponentLink1Description: Website Link; ComponentLink1URL: https://www.we-online.com; ComponentLink2Description: Datasheet Link; ComponentLink2URL: https://www.we-online.com/components/products/datasheet/667101210107; Mount: Surface Mount; Operating Temperature Min: -40degC; Operating Temperature Max: 110degC; Packaging: Tray; Gender: Female; Orientation: Horizontal; Lead Pitch: 2.5mm
footprint 667101210107
pins: 1, 2, 3, 4, 5, 6, 7

## 667101210108
designator J?  (value not drawn)
WR-RAST Female Housing IDC, SMT, Horizontal, lead pitch 2.5mm, 08p; Manufacturer: Wurth Elektronik; Rated Current: 4A; Insulator Material: PA66; Polarity: 8; Working Voltage: 32V (AC); Manufacturer Part Number: 667101210108; Category: Wire-to-Board Connector; Match Code: WR-RAST; ComponentLink1Description: Website Link; ComponentLink1URL: https://www.we-online.com; ComponentLink2Description: Datasheet Link; ComponentLink2URL: https://www.we-online.com/components/products/datasheet/667101210108; Mount: Surface Mount; Operating Temperature Min: -40degC; Operating Temperature Max: 110degC; Packaging: Tray; Gender: Female; Orientation: Horizontal; Lead Pitch: 2.5mm
footprint 667101210108
pins: 1, 2, 3, 4, 5, 6, 7, 8

## 667101210109
designator J?  (value not drawn)
WR-RAST Female Housing IDC, SMT, Horizontal, lead pitch 2.5mm, 09p; Manufacturer: Wurth Elektronik; Rated Current: 4A; Insulator Material: PA66; Polarity: 9; Working Voltage: 32V (AC); Manufacturer Part Number: 667101210109; Category: Wire-to-Board Connector; Match Code: WR-RAST; ComponentLink1Description: Website Link; ComponentLink1URL: https://www.we-online.com; ComponentLink2Description: Datasheet Link; ComponentLink2URL: https://www.we-online.com/components/products/datasheet/667101210109; Mount: Surface Mount; Operating Temperature Min: -40degC; Operating Temperature Max: 110degC; Packaging: Tray; Gender: Female; Orientation: Horizontal; Lead Pitch: 2.5mm
footprint 667101210109
pins: 1, 2, 3, 4, 5, 6, 7, 8, 9

## 667101210110
designator J?  (value not drawn)
WR-RAST Female Housing IDC, SMT, Horizontal, lead pitch 2.5mm, 10p; Manufacturer: Wurth Elektronik; Rated Current: 4A; Insulator Material: PA66; Polarity: 10; Working Voltage: 32V (AC); Manufacturer Part Number: 667101210110; Category: Wire-to-Board Connector; Match Code: WR-RAST; ComponentLink1Description: Website Link; ComponentLink1URL: https://www.we-online.com; ComponentLink2Description: Datasheet Link; ComponentLink2URL: https://www.we-online.com/components/products/datasheet/667101210110; Mount: Surface Mount; Operating Temperature Min: -40degC; Operating Temperature Max: 110degC; Packaging: Tray; Gender: Female; Orientation: Horizontal; Lead Pitch: 2.5mm
footprint 667101210110
pins: 1, 2, 3, 4, 5, 6, 7, 8, 9, 10

## 667101220102
designator J?  (value not drawn)
WR-RAST Female Housing IDC, SMT, Horizontal, lead pitch 5mm, 02p; Manufacturer: Wurth Elektronik; Rated Current: 4A; Insulator Material: PA66; Polarity: 2; Working Voltage: 250V (AC); Manufacturer Part Number: 667101220102; Category: Wire-to-Board Connector; Match Code: WR-RAST; ComponentLink1Description: Website Link; ComponentLink1URL: https://www.we-online.com; ComponentLink2Description: Datasheet Link; ComponentLink2URL: https://www.we-online.com/components/products/datasheet/667101220102; Mount: Surface Mount; Operating Temperature Min: -40degC; Operating Temperature Max: 110degC; Packaging: Tray; Gender: Female; Orientation: Horizontal; Lead Pitch: 5mm
footprint 667101220102
pins: 1, 2

## 667101220103
designator J?  (value not drawn)
WR-RAST Female Housing IDC, SMT, Horizontal, lead pitch 5mm, 03p; Manufacturer: Wurth Elektronik; Rated Current: 4A; Insulator Material: PA66; Polarity: 3; Working Voltage: 250V (AC); Manufacturer Part Number: 667101220103; Category: Wire-to-Board Connector; Match Code: WR-RAST; ComponentLink1Description: Website Link; ComponentLink1URL: https://www.we-online.com; ComponentLink2Description: Datasheet Link; ComponentLink2URL: https://www.we-online.com/components/products/datasheet/667101220103; Mount: Surface Mount; Operating Temperature Min: -40degC; Operating Temperature Max: 110degC; Packaging: Tray; Gender: Female; Orientation: Horizontal; Lead Pitch: 5mm
footprint 667101220103
pins: 1, 2, 3

## 667101220104
designator J?  (value not drawn)
WR-RAST Female Housing IDC, SMT, Horizontal, lead pitch 5mm, 04p; Manufacturer: Wurth Elektronik; Rated Current: 4A; Insulator Material: PA66; Polarity: 4; Working Voltage: 250V (AC); Manufacturer Part Number: 667101220104; Category: Wire-to-Board Connector; Match Code: WR-RAST; ComponentLink1Description: Website Link; ComponentLink1URL: https://www.we-online.com; ComponentLink2Description: Datasheet Link; ComponentLink2URL: https://www.we-online.com/components/products/datasheet/667101220104; Mount: Surface Mount; Operating Temperature Min: -40degC; Operating Temperature Max: 110degC; Packaging: Tray; Gender: Female; Orientation: Horizontal; Lead Pitch: 5mm
footprint 667101220104
pins: 1, 2, 3, 4

## 667101220105
designator J?  (value not drawn)
WR-RAST Female Housing IDC, SMT, Horizontal, lead pitch 5mm, 05p; Manufacturer: Wurth Elektronik; Rated Current: 4A; Insulator Material: PA66; Polarity: 5; Working Voltage: 250V (AC); Manufacturer Part Number: 667101220105; Category: Wire-to-Board Connector; Match Code: WR-RAST; ComponentLink1Description: Website Link; ComponentLink1URL: https://www.we-online.com; ComponentLink2Description: Datasheet Link; ComponentLink2URL: https://www.we-online.com/components/products/datasheet/667101220105; Mount: Surface Mount; Operating Temperature Min: -40degC; Operating Temperature Max: 110degC; Packaging: Tray; Gender: Female; Orientation: Horizontal; Lead Pitch: 5mm
footprint 667101220105
pins: 1, 2, 3, 4, 5

## 667101230102
designator J?  (value not drawn)
WR-RAST Female Housing IDC, SMT, Horizontal, lead pitch 2.5mm, 02p; Manufacturer: Wurth Elektronik; Rated Current: 4A; Insulator Material: PA66; Polarity: 2; Working Voltage: 32V (AC); Manufacturer Part Number: 667101230102; Category: Wire-to-Board Connector; Match Code: WR-RAST; ComponentLink1Description: Website Link; ComponentLink1URL: https://www.we-online.com; ComponentLink2Description: Datasheet Link; ComponentLink2URL: https://www.we-online.com/components/products/datasheet/667101230102; Mount: Surface Mount; Operating Temperature Min: -40degC; Operating Temperature Max: 110degC; Packaging: Tray; Gender: Female; Orientation: Horizontal; Lead Pitch: 2.5mm
footprint 667101230102
pins: 1, 2

## 667101230103
designator J?  (value not drawn)
WR-RAST Female Housing IDC, SMT, Horizontal, lead pitch 2.5mm, 03p; Manufacturer: Wurth Elektronik; Rated Current: 4A; Insulator Material: PA66; Polarity: 3; Working Voltage: 32V (AC); Manufacturer Part Number: 667101230103; Category: Wire-to-Board Connector; Match Code: WR-RAST; ComponentLink1Description: Website Link; ComponentLink1URL: https://www.we-online.com; ComponentLink2Description: Datasheet Link; ComponentLink2URL: https://www.we-online.com/components/products/datasheet/667101230103; Mount: Surface Mount; Operating Temperature Min: -40degC; Operating Temperature Max: 110degC; Packaging: Tray; Gender: Female; Orientation: Horizontal; Lead Pitch: 2.5mm
footprint 667101230103
pins: 1, 2, 3

## 667101230104
designator J?  (value not drawn)
WR-RAST Female Housing IDC, SMT, Horizontal, lead pitch 2.5mm, 04p; Manufacturer: Wurth Elektronik; Rated Current: 4A; Insulator Material: PA66; Polarity: 4; Working Voltage: 32V (AC); Manufacturer Part Number: 667101230104; Category: Wire-to-Board Connector; Match Code: WR-RAST; ComponentLink1Description: Website Link; ComponentLink1URL: https://www.we-online.com; ComponentLink2Description: Datasheet Link; ComponentLink2URL: https://www.we-online.com/components/products/datasheet/667101230104; Mount: Surface Mount; Operating Temperature Min: -40degC; Operating Temperature Max: 110degC; Packaging: Tray; Gender: Female; Orientation: Horizontal; Lead Pitch: 2.5mm
footprint 667101230104
pins: 1, 2, 3, 4

## 667101230105
designator J?  (value not drawn)
WR-RAST Female Housing IDC, SMT, Horizontal, lead pitch 2.5mm, 05p; Manufacturer: Wurth Elektronik; Rated Current: 4A; Insulator Material: PA66; Polarity: 5; Working Voltage: 32V (AC); Manufacturer Part Number: 667101230105; Category: Wire-to-Board Connector; Match Code: WR-RAST; ComponentLink1Description: Website Link; ComponentLink1URL: https://www.we-online.com; ComponentLink2Description: Datasheet Link; ComponentLink2URL: https://www.we-online.com/components/products/datasheet/667101230105; Mount: Surface Mount; Operating Temperature Min: -40degC; Operating Temperature Max: 110degC; Packaging: Tray; Gender: Female; Orientation: Horizontal; Lead Pitch: 2.5mm
footprint 667101230105
pins: 1, 2, 3, 4, 5

## 667101230106
designator J?  (value not drawn)
WR-RAST Female Housing IDC, SMT, Horizontal, lead pitch 2.5mm, 06p; Manufacturer: Wurth Elektronik; Rated Current: 4A; Insulator Material: PA66; Polarity: 6; Working Voltage: 32V (AC); Manufacturer Part Number: 667101230106; Category: Wire-to-Board Connector; Match Code: WR-RAST; ComponentLink1Description: Website Link; ComponentLink1URL: https://www.we-online.com; ComponentLink2Description: Datasheet Link; ComponentLink2URL: https://www.we-online.com/components/products/datasheet/667101230106; Mount: Surface Mount; Operating Temperature Min: -40degC; Operating Temperature Max: 110degC; Packaging: Tray; Gender: Female; Orientation: Horizontal; Lead Pitch: 2.5mm
footprint 667101230106
pins: 1, 2, 3, 4, 5, 6

## 667101230107
designator J?  (value not drawn)
WR-RAST Female Housing IDC, SMT, Horizontal, lead pitch 2.5mm, 07p; Manufacturer: Wurth Elektronik; Rated Current: 4A; Insulator Material: PA66; Polarity: 7; Working Voltage: 32V (AC); Manufacturer Part Number: 667101230107; Category: Wire-to-Board Connector; Match Code: WR-RAST; ComponentLink1Description: Website Link; ComponentLink1URL: https://www.we-online.com; ComponentLink2Description: Datasheet Link; ComponentLink2URL: https://www.we-online.com/components/products/datasheet/667101230107; Mount: Surface Mount; Operating Temperature Min: -40degC; Operating Temperature Max: 110degC; Packaging: Tray; Gender: Female; Orientation: Horizontal; Lead Pitch: 2.5mm
footprint 667101230107
pins: 1, 2, 3, 4, 5, 6, 7